# Altium schematic symbol library BAT63-02V.SchLib: 1 symbol
Pins are listed as number, name and electrical type; pins without a type are passive.

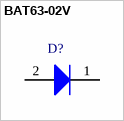
[diagram p0: symbol BAT63-02V]

## BAT63-02V
designator D?
Single Silicon Schottky Diode, 100 mA IF Max, SC79, Green; Manufacturer: Infineon; PartNumber: BAT63-02V; CT (typ): 0.65 pF; Green: yes; Group: RF Signal Detection + Power Leveling; IF (max): 100 mA; VF (typ): 0.19 V; VR (max): 3 V; DatasheetVersion: Jun-2011; PackageReference: SC79; PackageDescription: 2-Pin Semiconductor Package, 0.8 x 1.2 mm Body; Configuration: Single; Halogen-free: yes; Mounting Technology: Surface Mount; ComponentLink1Description: Manufacturer URL; ComponentLink1URL: http://www.infineon.com/; ComponentLink2Description: Datasheet; ComponentLink2URL: http://www.infineon.com/dgdl/bat63series.pdf?folderId=db3a304314dca389011518104e5d0df2&fileId=db3a304314dca38901151817843c0df4&location=en.Products.RF.RF_Mixer___Detector_Schottky_Diodes.DATASHEET.bat63series.pdf; ComponentLink3Description: Package Specification; ComponentLink3URL: http://www.infineon.com/dgdl/SC79-Package_Overview.pdf?folderId=db3a30431936bc4b011951fbddb03b15&fileId=db3a30431936bc4b01195226fe583b41
footprint INF-SC79_V (SC79, 2-Leads, Body 1.2x0.8 mm)
pins: 1 K, 2 A